# EAGLE library part LTC6990 (library LTC6990)
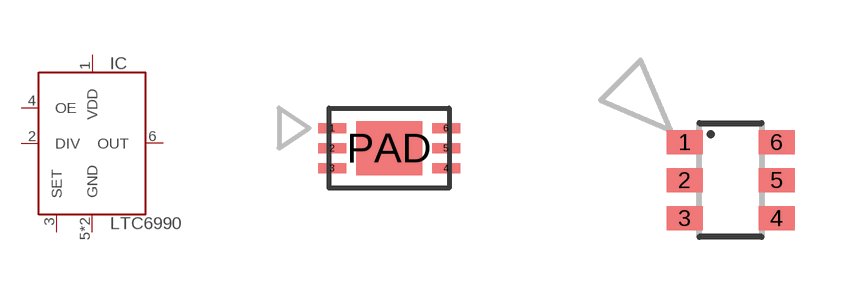
[diagram p0: symbol with the pads of DFN6-2X3; footprints DFN6-2X3, SOT23-6]

Designator prefix IC

## LTC6990CDCB (MARK: LDWX; MF: Analog; MPN: LTC6990CDCB#TRPBF), LTC6990HDCB (MARK: LDWX; MF: Analog; MPN: LTC6990HDCB#TRPBF), LTC6990IDCB (MARK: LDWX; MF: Analog; MPN: LTC6990IDCB#TRPBF)  [DFN6-2X3]
1  VDD  pwr
2  DIV
3  SET
4  OE  in
5  GND  pwr
6  OUT  out
PAD  GND  pwr

## LTC6990CS6 (MARK: LTDWW; MF: Analog; MPN: LTC6990CS6#TRPBF), LTC6990HS6 (MARK: LTDWW; MF: Analog; MPN: LTC6990HS6#TRPBF), LTC6990IS6 (MARK: LTDWW; MF: Analog; MPN: LTC6990IS6#TRPBF), LTC6990MPS6 (MARK: LTDWW; MF: Analog; MPN: LTC6990MPS6#TRPBF)  [SOT23-6]
1  OE  in
2  GND  pwr
3  SET
4  DIV
5  VDD  pwr
6  OUT  out

## Footprint DFN6-2X3 (pad centres in mm)
smd 0.7 x 0.25: 1 -1.425,0.5; 2 -1.425,0; 3 -1.425,-0.5; 4 1.425,-0.5; 5 1.425,0; 6 1.425,0.5
smd 1.65 x 1.35: PAD 0,0

## Footprint SOT23-6 (pad centres in mm)
Small Outline Transistor 6 lead
smd 0.9 x 0.6: 1 -1.15,0.95; 2 -1.15,0; 3 -1.15,-0.95; 4 1.15,-0.95; 5 1.15,0; 6 1.15,0.95